# EAGLE library part PINHD-1X6-STRAINRELIEF (library pie)
6-pin 0.1-inch header with holes for strain relief
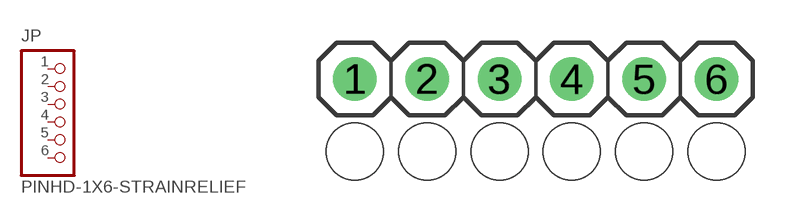
[diagram p30: symbol with the pads of 1X06-STRAINRELIEF; footprint 1X06-STRAINRELIEF]

Designator prefix JP

## PINHD-1X6-STRAINRELIEF  [1X06-STRAINRELIEF]
1  1  pas
2  2  pas
3  3  pas
4  4  pas
5  5  pas
6  6  pas

## Footprint 1X06-STRAINRELIEF (pad centres in mm)
6-pin 0.1-inch header DigiKey Page <http://www.digikey.com/product-search/en/connectors-interconnects/rectangular-connectors-headers-male-pins/1442547?k=header+pin+strain+relief&k=&pkeyword=header+pin+strain+relief&pv88=7&pv90=1&pv5=4247&FV=fff40016%2Cfff802f3&mnonly=0&newproducts=0&ColumnSort=0&page=1&quantity=0&ptm=0&fid=0&pageSize=25>
drill 1.016 pad 1.524: 1 -6.35,0; 2 -3.81,0; 3 -1.27,0; 4 1.27,0; 5 3.81,0; 6 6.35,0
hole 2 at -6.35,-2.54
hole 2 at -3.81,-2.54
hole 2 at -1.27,-2.54
hole 2 at 1.27,-2.54
hole 2 at 3.81,-2.54
hole 2 at 6.35,-2.54